# Altium schematic symbol library Discretes.SchLib: 41 symbols
Pins are listed as number, name and electrical type; pins without a type are passive.

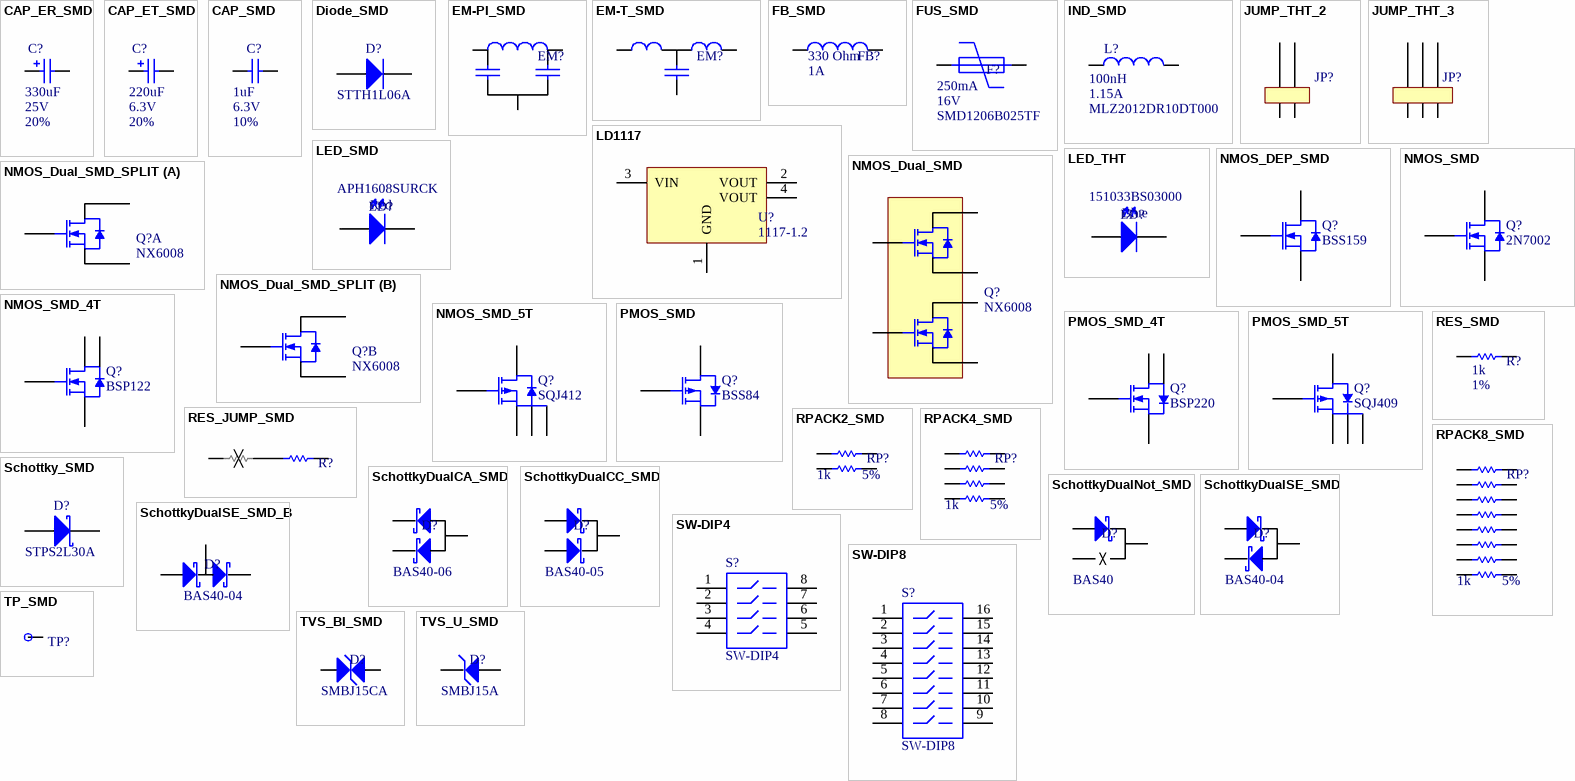
[diagram p0: symbols CAP_ER_SMD to TVS_U_SMD]

## CAP_ER_SMD
designator C?  value 330uF  Tolerance: 20%  Voltage: 25V  (hidden comment: CAP_ER_SMD)
Polarized Capacitor (Radial); Manufacturer: Panasonic Electronic Components; Manufacturer Part Number: 25SVPF330M
simulation model CAP (Capacitor)
signal-integrity model Cap Pol
footprint ECAP-F12
footprint ECAP-E12
footprint ECAP-E7
footprint ECAP-C6
footprint ECAP-D8
pins: 1, 2
1 alternate drawing of the same symbol

## CAP_ET_SMD
designator C?, comment Voltage: 6.3V  Tolerance: 20%  (hidden comment: 220uF)
Tantalum Chip Capacitor; Manufacturer: Kemet; Manufacturer Part Number: T491D477M006AT; Value: 220uF
footprint TC-2917-D (Capacitor, SM Tantalum; Body 7.3 x 4.3 mm (LxW typ))
simulation model CAP (Capacitor)
signal-integrity model T491D
pins: 1, 2
1 alternate drawing of the same symbol

## CAP_SMD
designator C?, comment Tolerance: 10%  Voltage: 6.3V  (hidden comment: 1uF)
SMD Capacitor; Manufacturer Part Number: C0402C105K9PAC7867; Manufacturer: Kemet; Package: =Footprint; Value: 1uF
footprint C-0402 (Chip Capacitor 0402)
footprint C-1210 (Chip Capacitor 1210)
signal-integrity model CAP_SMD (Ceramic capacitor)
footprint C-0603 (Chip Capacitor 0603)
footprint C-0805 (Chip Capacitor 0805)
footprint C-1206 (Chip Capacitor 1206)
simulation model Capacitor (Model Description)
footprint C-1812 (Chip Capacitor 1812)
pins: 1, 2

## Diode_SMD
designator D?  Manufacturer Part Number: STTH1L06A  (hidden comment: Diode_SMD)
Signal Diode; Manufacturer: ST Microelectronics
footprint D-SMA (DO-214-AC/SMA)
signal-integrity model Diode_SMD (Diode)
footprint D-SOD-123 (SOD-123)
footprint D-SOD-323 (SOD-323)
simulation model Diode (Model Description)
footprint D-SMB (DO-214-AA/SMB)
pins: 1 K, 2 A

## EM-PI_SMD
designator EM?
SMD EMI Filter PI-Type; Manufacturer Part Number: MEM2012F101RT001; Manufacturer: TDK; Tolerance: 20%; Package: =Footprint
signal-integrity model FB_SMD (Ferrite Bead)
footprint F-0805 (Chip EM Filter, 3-Leads, Body 2,00x1,25mm, IPC Medium Density)
pins: 1, 2, 3

## EM-T_SMD
designator EM?
SMD EMI Filter T-Type; Manufacturer Part Number: MEM2012S101RT001; Manufacturer: TDK; Tolerance: 20%; Package: =Footprint
signal-integrity model FB_SMD (Ferrite Bead)
footprint F-0805 (Chip EM Filter, 3-Leads, Body 2,00x1,25mm, IPC Medium Density)
pins: 1, 2, 3

## FB_SMD
designator FB?  value 330 Ohm  Current: 1A
SMD Ferrite Bead; Manufacturer Part Number: BLM21PG331SN1D; Manufacturer: Murata Electronics; Tolerance: 20%; Package: =Footprint
footprint I-0603 (Chip Inductor, 2-Leads, Body 1.6x0.8mm)
signal-integrity model FB_SMD (Ferrite Bead)
footprint I-0805 (Chip Inductor, 2-Leads, Body 2,00x1,25mm, IPC Medium Density)
simulation model Inductor (Model Description)
pins: 1, 2

## FUS_SMD
designator F?, comment Manufacturer Part Number: SMD1206B025TF  Voltage: 16V  (hidden comment: 250mA)
SMD Polymeric Resettable Fuse; Manufacturer: YAGEO; Package: =Footprint; Value: 250mA
signal-integrity model RES_SMD (Resistor)
footprint PF-0805 (Chip Polyfuse 0805)
simulation model Resistor (Model Description)
footprint PF-1206 (Chip Polyfuse 1206)
footprint PF-1210 (Chip Polyfuse 1210)
pins: 1, 2

## IND_SMD
designator L?, comment Manufacturer Part Number: MLZ2012DR10DT000  Current: 1.15A  (hidden comment: 100nH)
SMD Inductor; Manufacturer: TDK; Tolerance: 20%; Package: =Footprint; Value: 100nH
simulation model INDUCTOR (Inductor)
signal-integrity model Inductor
footprint I-1812 (SMD Inductor 1812)
footprint I-0805 (Chip Inductor, 2-Leads, Body 2,00x1,25mm, IPC Medium Density)
footprint I-1212 (SMD Inductor 1212)
footprint I-3232 (SMD Inductor 3232)
footprint I-2020 (SMD Inductor 2020)
pins: 1, 2

## JUMP_THT_2
designator JP?, comment Open  (value not drawn)
THT Jumper
footprint JMP_THT_2 (Jumper Terminal)
pins: 1, 2

## JUMP_THT_3
designator JP?, comment Open  (value not drawn)
THT Jumper; Manufacturer Part Number: 2303-6111-TG; Manufacturer: 3M
footprint JMP_THT_3 (Jumper Terminal)
pins: 1, 2, 3

## LD1117
designator U?, comment 1117-1.2
Linear Regulator; Manufacturer Part Number: LD1117S12CTR; Manufacturer: ST Microelectronics; Package: =Footprint
footprint T-SOT223-4 (SOT223, 4-Leads, Body 6.50x7.00mm (avg), Pitch 2.30mm, IPC Medium Density)
footprint T-TO252-3 (TO252-3 / DPAK - No center lead)
pins: 1 GND (power), 2 VOUT (power), 3 VIN (power), 4 VOUT (power)

## LED_SMD
designator LD?, comment Manufacturer Part Number: APH1608SURCK  (hidden comment: Red)
SMD LED; Manufacturer: Kingbright; Package: =Footprint; Color: Red
footprint LED-0603 (LED 0603)
pins: 1 K, 2 A

## LED_THT
designator LD?, comment Manufacturer Part Number: 151033BS03000  (hidden comment: Blue)
THT LED; Manufacturer: Wuerth Elektronik; Package: =Footprint; Color: Blue
footprint LED_THT_3MM (Through Hole 3mm LED)
pins: 1 K, 2 A

## NMOS_DEP_SMD
designator Q?, comment BSS159
N-Channel Depletion Mode Mosfet; Manufacturer Part Number: BSS159NH6327XTSA2; Manufacturer: Infineon Technologies; Package: =Footprint
footprint T-SOT23 (SOT23 3-Leads)
footprint T-SOT323 (SOT323)
pins: 1 GATE, 2 SOURCE, 3 DRAIN

## NMOS_Dual_SMD
designator Q?, comment NX6008
Dual N-Channel Mosfet; Manufacturer Part Number: NX6008NBKS; Manufacturer: Nexperia
footprint T-SOT363-6 (SOT363)
pins: 1 SOURCE, 2 GATE, 3 DRAIN, 4 SOURCE, 5 GATE, 6 DRAIN

## NMOS_Dual_SMD_SPLIT
designator Q?, comment NX6008
Dual N-Channel Mosfet; Manufacturer Part Number: NX6008NBKS; Manufacturer: Nexperia
footprint T-SOT363-6 (SOT363)
part A pins: 1 SOURCE, 2 GATE, 6 DRAIN
part B pins: 3 DRAIN, 4 SOURCE, 5 GATE

## NMOS_SMD
designator Q?, comment 2N7002
N-Channel Mosfet; Manufacturer Part Number: 2N7002,215; Manufacturer: Nexperia; Package: =Footprint
footprint T-SOT23 (SOT23 3-Leads)
footprint T-SOT323 (SOT323)
pins: 1 GATE, 2 SOURCE, 3 DRAIN

## NMOS_SMD_4T
designator Q?, comment BSP122
N-Channel Mosfet; Manufacturer Part Number: BSP122,115; Manufacturer: Nexperia; Package: =Footprint
footprint T-SOT223-4 (SOT223, 4-Leads, Body 6.50x7.00mm (avg), Pitch 2.30mm, IPC Medium Density)
pins: 1 GATE, 2 DRAIN, 3 SOURCE, 4 DRAIN

## NMOS_SMD_5T
designator Q?, comment SQJ412
N-Channel Mosfet; Manufacturer Part Number: SQJ412EP-T1_GE3; Manufacturer: Vishay; Package: =Footprint
footprint T-PPAK_SO-8L
pins: 1 SOURCE, 2 SOURCE, 3 SOURCE, 4 GATE, 5 DRAIN

## PMOS_SMD
designator Q?, comment BSS84
P-Channel Mosfet; Manufacturer: Nexperia; Manufacturer Part Number: BSS84AK,215; Package: =Footprint
footprint T-SOT23 (SOT23 3-Leads)
footprint T-SOT323 (SOT323)
pins: 1 GATE, 2 SOURCE, 3 DRAIN

## PMOS_SMD_4T
designator Q?, comment BSP220
P-Channel Mosfet; Manufacturer Part Number: BSP220,115; Manufacturer: Nexperia; Package: =Footprint
footprint T-SOT223-4 (SOT223, 4-Leads, Body 6.50x7.00mm (avg), Pitch 2.30mm, IPC Medium Density)
pins: 1 GATE, 2 DRAIN, 3 SOURCE, 4 DRAIN

## PMOS_SMD_5T
designator Q?, comment SQJ409
P-Channel Mosfet; Manufacturer Part Number: SQJ409EP-T1_GE3; Manufacturer: Vishay; Package: =Footprint
footprint T-PPAK_SO-8L
pins: 1 SOURCE, 2 SOURCE, 3 SOURCE, 4 GATE, 5 DRAIN

## RES_JUMP_SMD
designator R?, comment 10k  (value not drawn)
SMD Resistor Jumper; Value: 10k; Package: =Footprint
signal-integrity model RES_SMD (Resistor)
footprint J-0402 (SMD Resistor 0402 Jumper)
footprint J-0603 (SMD Resistor 0603 Jumper)
pins: 1, 2, 3

## RES_SMD
designator R?, comment Tolerance: 1%  (hidden comment: 1k)
SMD Resistor; Manufacturer Part Number: CRCW06031K00FKEA; Manufacturer: Vishay; Package: =Footprint; Value: 1k
footprint R-0402 (SMD Resistor 0402)
signal-integrity model RES_SMD (Resistor)
footprint R-0603 (SMD Resistor 0603)
footprint R-0805 (SMD Resistor 0805)
footprint R-1206 (SMD Resistor 1206)
simulation model Resistor (Model Description)
footprint R-1210 (SMD Resistor 1210)
pins: 1, 2

## RPACK2_SMD
designator RP?, comment Tolerance: 5%  (hidden comment: 1k)
SMD Resistor Pack of 2; Manufacturer Part Number: 742C043102JP; Manufacturer: CTS Electronic Components; Package: =Footprint; Value: 1k
footprint RP2-0606 (Resistor Pack, Body 1.6x1.6mm, 2x0603, IPC Medium Density)
signal-integrity model Model Name (Model Description)
pins: 1, 2, 3, 4

## RPACK4_SMD
designator RP?, comment Tolerance: 5%  (hidden comment: 1k)
SMD Resistor Pack of 4; Manufacturer Part Number: CAT16-102J4LF; Manufacturer: Bourns; Package: =Footprint; Value: 1k
footprint RP4-1206 (Resistor Pack, Body 1.6x3.2mm, 4x0603, IPC Medium Density)
signal-integrity model Model Name (Model Description)
footprint RP4-0804 (Resistor Pack, Body 1.0x2.0mm)
pins: 1, 2, 3, 4, 5, 6, 7, 8

## RPACK8_SMD
designator RP?, comment Tolerance: 5%  (hidden comment: 1k)
SMD Resistor Pack of 8; Manufacturer Part Number: 742C163102JP; Manufacturer: CTS Electronic Components; Package: =Footprint; Value: 1k
footprint RP8-2506 (Resistor Pack, Body 1.6x3.2mm, 8x0603, IPC Medium Density)
footprint RP8-1506 (Resistor Pack, Body 3.8x1.6mm)
signal-integrity model Model Name (Model Description)
pins: 1, 2, 3, 4, 5, 6, 7, 8, 9, 10, 11, 12, 13, 14, 15, 16

## Schottky_SMD
designator D?  Manufacturer Part Number: STPS2L30A  (hidden comment: Schottky_SMD)
Schottky Diode; Manufacturer: ST Microelectronics; Package: =Footprint
footprint D-SMA (DO-214-AC/SMA)
signal-integrity model Schottky_SMD (Schottky Diode)
footprint D-SOD-123 (SOD-123)
footprint D-SOD-323 (SOD-323)
footprint D-SMB (DO-214-AA/SMB)
pins: 1 K, 2 A

## SchottkyDualCA_SMD
designator D?, comment value BAS40-06  (hidden comment: Schottky_SMD)
Schottky Diode Common Anode; Manufacturer Part Number: BAS40-06,235; Manufacturer: Nexperia; Package: =Footprint
signal-integrity model Schottky_SMD (Schottky Diode)
footprint T-SOT23 (SOT23 3-Leads)
pins: 1 K, 2 K, 3 AA

## SchottkyDualCC_SMD
designator D?, comment value BAS40-05  (hidden comment: Schottky_SMD)
Schottky Diode Common Cathode; Manufacturer Part Number: BAS40-05,235; Manufacturer: Nexperia; Package: =Footprint
signal-integrity model Schottky_SMD (Schottky Diode)
footprint T-SOT23 (SOT23 3-Leads)
pins: 1 A, 2 A, 3 KK

## SchottkyDualNot_SMD
designator D?, comment value BAS40  (hidden comment: Schottky_SMD)
Schottky Diode Single; Manufacturer Part Number: BAS40,235; Manufacturer: Nexperia; Package: =Footprint
signal-integrity model Schottky_SMD (Schottky Diode)
footprint T-SOT23 (SOT23 3-Leads)
pins: 1 A, 2 NC, 3 K

## SchottkyDualSE_SMD
designator D?, comment value BAS40-04  (hidden comment: Schottky_SMD)
Schottky Diode Series; Manufacturer Part Number: BAS40-04,235; Manufacturer: Nexperia; Package: =Footprint
signal-integrity model Schottky_SMD (Schottky Diode)
footprint T-SOT23 (SOT23 3-Leads)
pins: 1 A, 2 K, 3 KA

## SchottkyDualSE_SMD_B
designator D?, comment value BAS40-04  (hidden comment: Schottky_SMD)
Schottky Diode Series; Manufacturer Part Number: BAS40-04,235; Manufacturer: Nexperia; Package: =Footprint
signal-integrity model Schottky_SMD (Schottky Diode)
footprint T-SOT23 (SOT23 3-Leads)
pins: 1 A, 2 K, 3 KA

## SW-DIP4
designator S?
Quad DIP Switch; Manufacturer Part Number: 206-4; Manufacturer: CTS Electronic Components; Package: DIP-8
footprint SW-DIP-8
simulation model dpsw4 (Spice Subcircuit)
pins: 1, 2, 3, 4, 5, 6, 7, 8

## SW-DIP8
designator S?
Octo DIP Switch; Manufacturer Part Number: 206-8; Manufacturer: CTS Electronic Components; Package: DIP-16
simulation model dpsw8 (Spice Subcircuit)
footprint SW-DIP-16
pins: 1 A1, 2 A2, 3 A3, 4 A4, 5 A5, 6 A6, 7 A7, 8 A8, 9 B8, 10 B7, 11 B6, 12 B5, 13 B4, 14 B3, 15 B2, 16 B1

## TP_SMD
designator TP?  (no BOM)
SMD Test point pad
footprint TP_SMD_1 (SMD Testpoint 1mm)
footprint TP_SMD_06 (SMD Testpoint 0.6mm)
footprint TP_SMD_08 (SMD Testpoint 0.8mm)
pins: 1

## TVS_BI_SMD
designator D?, comment Manufacturer Part Number: SMBJ15CA  (hidden comment: TVS_SMD)
Bidirectional TVS Diode; Manufacturer: Bourns; Value: VBR 15V; Package: =Footprint
footprint D-SMA (DO-214-AC/SMA)
simulation model Diode (Model Description)
signal-integrity model Diode (Model Description)
footprint D-SMB (DO-214-AA/SMB)
pins: 1 K, 2 A

## TVS_U_SMD
designator D?, comment Manufacturer Part Number: SMBJ15A  (hidden comment: TVS_SMD)
Unidirectional TVS Diode; Manufacturer: Bourns; Value: VBR 15V; Package: =Footprint
footprint D-SMA (DO-214-AC/SMA)
simulation model Diode (Model Description)
signal-integrity model Diode (Model Description)
footprint D-SMB (DO-214-AA/SMB)
pins: 1 K, 2 A

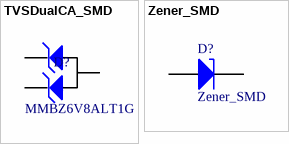
[diagram p1: symbols TVSDualCA_SMD to Zener_SMD]

## TVSDualCA_SMD
designator D?, comment Manufacturer Part Number: MMBZ6V8ALT1G  (hidden comment: TVS_SMD)
TVS Diode Common Anode; Manufacturer: Onsemi; Value: VBR 6.8V; Package: =Footprint
footprint T-SOT23 (SOT23 3-Leads)
simulation model Diode (Model Description)
signal-integrity model Diode (Model Description)
pins: 1 K, 2 K, 3 AA

## Zener_SMD
designator D?
Zener Diode
footprint D-SMA (DO-214-AC/SMA)
signal-integrity model Diode (Schottky Diode)
footprint D-SOD-123 (SOD-123)
footprint D-SOD-323 (SOD-323)
simulation model Diode (Model Description)
pins: 1 K, 2 A